# Altium schematic symbol library MCU STM32.SchLib: 3 symbols
Pins are listed as number, name and electrical type; pins without a type are passive.

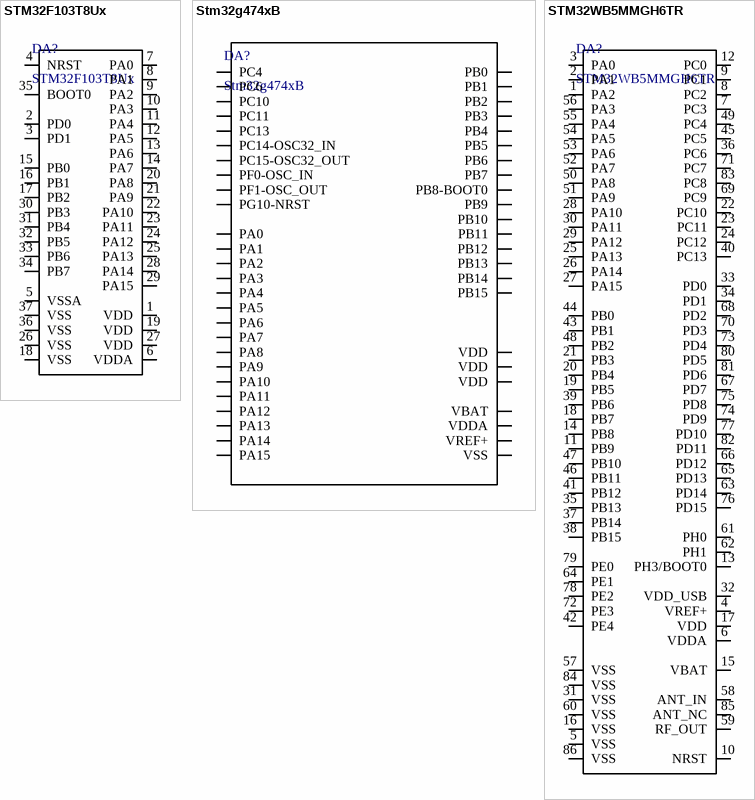
[diagram p0: symbols STM32F103T8Ux to STM32WB5MMGH6TR]

## STM32F103T8Ux
designator DA?
Medium-density performance line Arm®-based 32-bit MCU with 64 or 128 KB Flash, USB, CAN, 7 timers, 2 ADCs, 9 com. interfaces
footprint VFQFPN36
pins: 1 VDD, 2 PD0, 3 PD1, 4 NRST, 5 VSSA, 6 VDDA, 7 PA0, 8 PA1, 9 PA2, 10 PA3, 11 PA4, 12 PA5, 13 PA6, 14 PA7, 15 PB0, 16 PB1, 17 PB2, 18 VSS, 19 VDD, 20 PA8, 21 PA9, 22 PA10, 23 PA11, 24 PA12, 25 PA13, 26 VSS, 27 VDD, 28 PA14, 29 PA15, 30 PB3, 31 PB4, 32 PB5, 33 PB6, 34 PB7, 35 BOOT0, 36 VSS, 37 VSS

## Stm32g474xB
designator DA?
footprint UFQFPN48
pins: 1 VBAT, 2 PC13, 3 PC14-OSC32_IN, 4 PC15-OSC32_OUT, 5 PF0-OSC_IN, 6 PF1-OSC_OUT, 7 PG10-NRST, 8 PA0, 9 PA1, 10 PA2, 11 PA3, 12 PA4, 13 PA5, 14 PA6, 15 PA7, 16 PC4, 17 PB0, 18 PB1, 19 PB2, 20 VREF+, 21 VDDA, 22 PB10, 23 VDD, 24 PB11, 25 PB12, 26 PB13, 27 PB14, 28 PB15, 29 PC6, 30 PA8, 31 PA9, 32 PA10, 33 PA11, 34 PA12, 35 VDD, 36 PA13, 37 PA14, 38 PA15, 39 PC10, 40 PC11, 41 PB3, 42 PB4, 43 PB5, 44 PB6, 45 PB7, 46 PB8-BOOT0, 47 PB9, 48 VDD, 49 VSS

## STM32WB5MMGH6TR
designator DA?
802.15.4, Bluetooth Bluetooth v5.0, Thread, Zigbee® Transceiver Module 2.4GHz Integrated, Chip Surface Mount
footprint STM32WB5MMGH6TR
pins: 1 PA2, 2 PA1, 3 PA0, 4 VREF+, 5 VSS, 6 VDDA, 7 PC3, 8 PC2, 9 PC1, 10 NRST, 11 PB9, 12 PC0, 13 PH3/BOOT0, 14 PB8, 15 VBAT, 16 VSS, 17 VDD, 18 PB7, 19 PB5, 20 PB4, 21 PB3, 22 PC10, 23 PC11, 24 PC12, 25 PA13, 26 PA14, 27 PA15, 28 PA10, 29 PA12, 30 PA11, 31 VSS, 32 VDD_USB, 33 PD0, 34 PD1, 35 PB13, 36 PC6, 37 PB14, 38 PB15, 39 PB6, 40 PC13, 41 PB12, 42 PE4, 43 PB1, 44 PB0, 45 PC5, 46 PB11, 47 PB10, 48 PB2, 49 PC4, 50 PA8, 51 PA9, 52 PA7, 53 PA6, 54 PA5, 55 PA4, 56 PA3, 57 VSS, 58 ANT_IN, 59 RF_OUT, 60 VSS, 61 PH0, 62 PH1, 63 PD14, 64 PE1, 65 PD13, 66 PD12, 67 PD7, 68 PD2, 69 PC9, 70 PD3, 71 PC7, 72 PE3, 73 PD4, 74 PD9, 75 PD8, 76 PD15, 77 PD10, 78 PE2, 79 PE0, 80 PD5, 81 PD6, 82 PD11, 83 PC8, 84 VSS, 85 ANT_NC, 86 VSS